# EAGLE library part SE2432L (library se2432l)
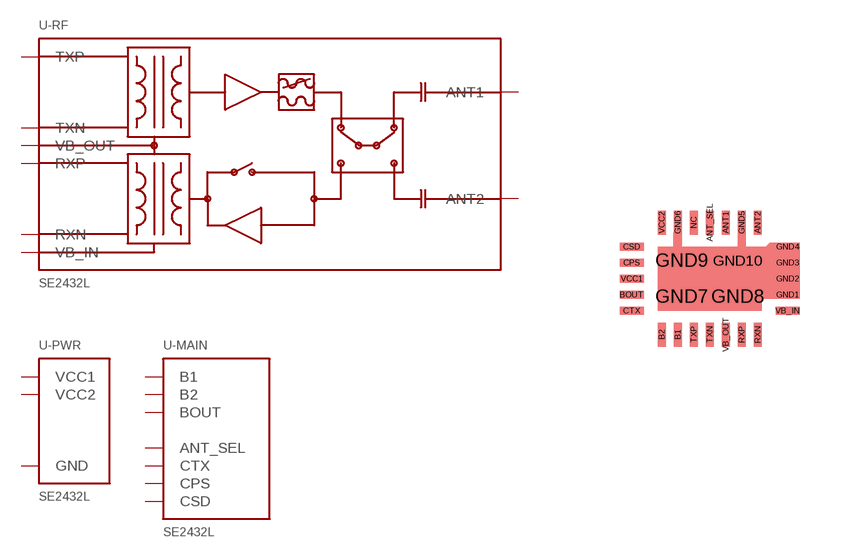
[diagram p0: symbol with the pads of 24QFN; footprint 24QFN]

Designator prefix -; gates -RF=SE2432L-RF -PWR=SE2432L-PWR -MAIN=SE2432L-MAIN

## SE2432L  [24QFN]
ANT1  -RF:ANT1
ANT2  -RF:ANT2
ANT_SEL  -MAIN:ANT_SEL
B1  -MAIN:B1
B2  -MAIN:B2
BOUT  -MAIN:BOUT
CPS  -MAIN:CPS
CSD  -MAIN:CSD
CTX  -MAIN:CTX
GND1  -PWR:GND
GND2  -PWR:GND
GND3  -PWR:GND
GND4  -PWR:GND
GND5  -PWR:GND
GND6  -PWR:GND
GND7  -PWR:GND
GND8  -PWR:GND
GND9  -PWR:GND
GND10  -PWR:GND
RXN  -RF:RXN
RXP  -RF:RXP
TXN  -RF:TXN
TXP  -RF:TXP
VB_IN  -RF:VB_IN
VB_OUT  -RF:VB_OUT
VCC1  -PWR:VCC1
VCC2  -PWR:VCC2

## Footprint 24QFN (pad centres in mm)
smd 0.2 x 0.6: ANT1 0.4,1.4; ANT2 1.2,1.4; ANT_SEL 0,1.4; B1 -0.8,-1.4; B2 -1.2,-1.4; GND5 0.8,1.4; GND6 -0.8,1.4; NC -0.4,1.4; RXN 1.2,-1.4; RXP 0.8,-1.4; TXN 0,-1.4; TXP -0.4,-1.4; VB_OUT 0.4,-1.4; VCC2 -1.2,1.4
smd 0.6 x 0.2: BOUT -1.95,-0.4; CPS -1.95,0.4; CSD -1.95,0.8; CTX -1.95,-0.8; GND1 1.95,-0.4; GND2 1.95,0; GND3 1.95,0.4; GND4 1.95,0.8; VB_IN 1.95,-0.8; VCC1 -1.95,0
smd 1 x 0.5: GND7 -0.7,-0.45; GND8 0.7,-0.45; GND9 -0.7,0.45; GND10 0.7,0.45